# Altium footprint library Powerhub.PcbLib: 23 footprints (part 2 of 2)
Each footprint in its own frame and in the unit in brackets; x right, y up, seen from the top. Pads: shape width x height; smd on the part's side, far side on the other; paste and mask are expansions set on the pad; w line width, h text height; cw(c..) or ccw(c..) is an arc to the next point about the centre after c.
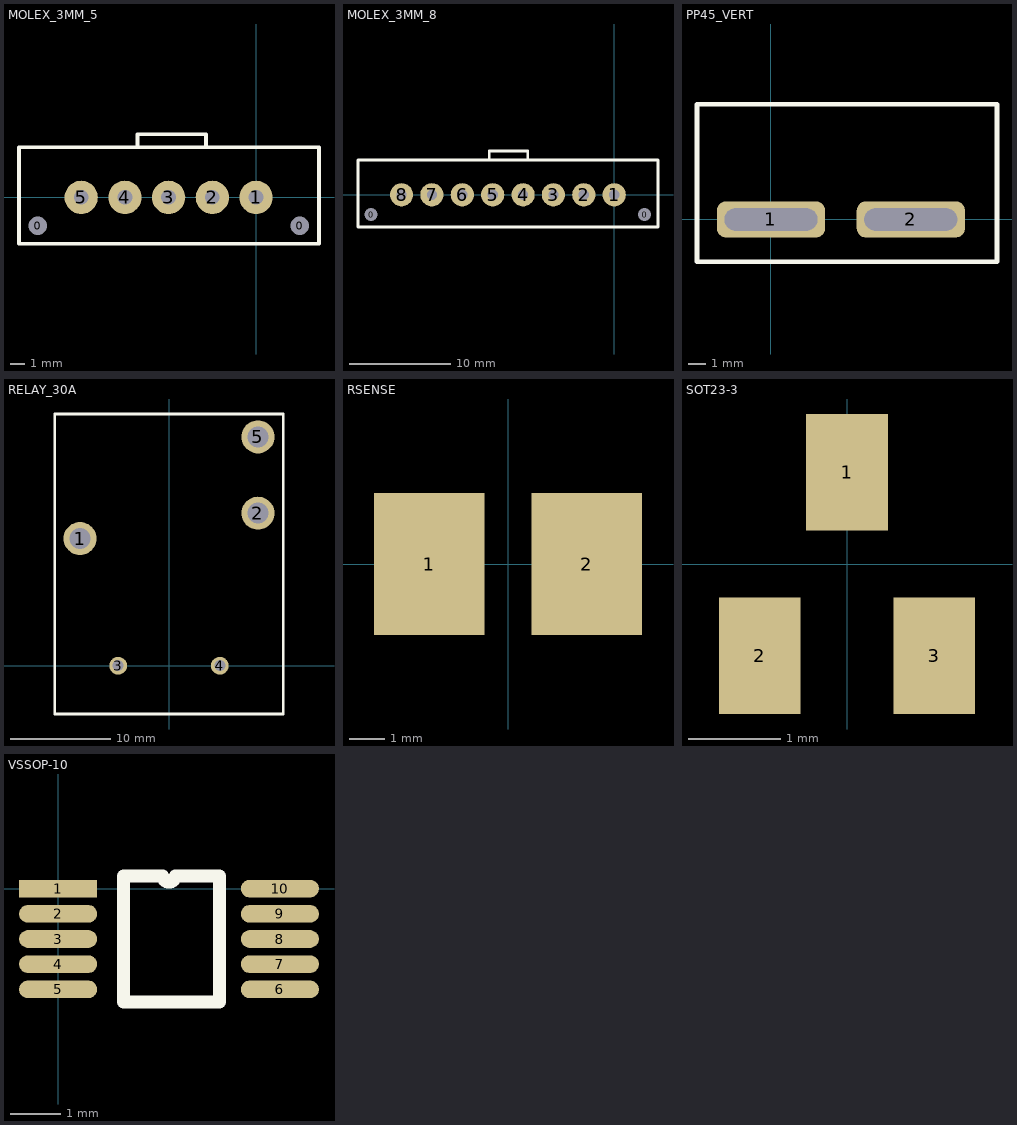
[diagram p1: the footprints below, top view; thin cyan lines are the x and y axes]

## MOLEX_3MM_5 [mil] "Molex MicroFit 3MM 5 Pin"
pads (7):
  round 40 hole 50: 0(-590,-77) 0(118,-77)
  round 90 hole 40: 1(0,0) 2(-118,0) 3(-236,0) 4(-354,0) 5(-472,0)
Top Overlay:
  lines w10: -320,135 -320,170 -135,170 -135,135 ; -640,-125 -640,135 170,135 170,-125 -640,-125
3D body "436500515.stp": height 394.88, standoff -120.08, extent -603.86,-100.33 130,120.33

## MOLEX_3MM_8 [mil] "Molex MicroFit 3MM 5 Pin"
pads (10):
  round 40 hole 50: 0(-944,-77) 0(118,-77)
  round 90 hole 40: 1(0,0) 2(-118,0) 3(-236,0) 4(-354,0) 5(-472,0) 6(-590,0) 7(-708,0) 8(-826,0)
Top Overlay:
  lines w10: -485,135 -485,170 -335,170 -335,135 ; -995,-125 -995,135 170,135 170,-125 -995,-125
3D body "436500815.stp": height 394.88, standoff -120.08, extent -958.19,-95.33 130,125.33

## PP45_VERT [mil] "PowerPole45 vertical"
pads (2):
  rrect50% 240x80 hole 50 slot 206 at 0 deg: 1(0,0) 2(310,0)
Top Overlay:
  lines w10: -164,-94 -164,255 501,255 501,-94 -164,-94
3D body "1335G1x2.STEP": height 998, standoff -176, extent -153.86,-85 489.86,246.07

## RELAY_30A [mil]
pads (5):
  round 130 hole 83: 1(-350,500) 2(350,600) 5(350,900)
  round 70 hole 43: 3(-200,0) 4(200,0)
Top Overlay:
  lines w10: -450,-190 -450,990 450,990 450,-190 -450,-190
3D body "T9GS1L14-24.stp": height 600, standoff -146.06, extent -411.26,-168.89 431.26,968.9

## RSENSE [mil] "RESC3115X65N"
pads (2):
  rect 122x157 smd: 1(-87,0) 2(87,0)
3D body "CSM2512FT1L00.STEP": height 35, standoff -0.43, extent -125.98,-62.99 125.99,63

## SOT23-3 [mm]
pads (3):
  rect 0.889x1.27 smd: 1(0,1) 2(-0.95,-1) 3(0.95,-1)
3D body "SOT23.step": height 2.11, standoff 1.16, extent -1.554,-1.429 1.346,0.972

## VSSOP-10 [mm]
pads (10):
  rect 1.55x0.35 smd: 1(0,0)
  oval 1.55x0.35 smd: 2(0,-0.5) 3(0,-1) 4(0,-1.5) 5(0,-2) 6(4.4,-2) 7(4.4,-1.5) 8(4.4,-1) 9(4.4,-0.5) 10(4.4,0)
Top Overlay:
  lines w0.254: 1.295,-2.25 1.295,0.25 2.075,0.25 ccw(c2.2,0.25) 2.325,0.25 3.2,0.25 3.2,-2.25 1.295,-2.25
3D body "DGS0010A.stp": height 1.04, standoff -0.06, extent -0.278,-2.49 4.647,0.51